# EAGLE library part CP2102 (library tmxk)
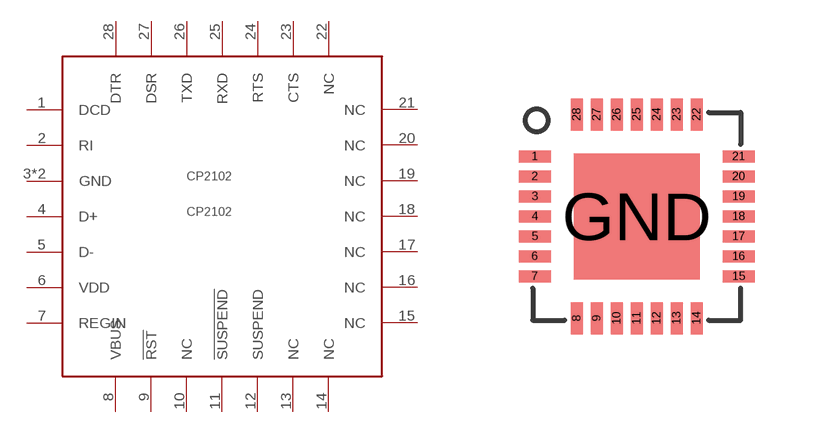
[diagram p23: symbol with the pads of QFN28-5*5; footprint QFN28-5*5]

Designator prefix U

## CP2102  [QFN28-5*5]
1  DCD
2  RI
3  GND
4  D+
5  D-
6  VDD
7  REGIN
8  VBUS
9  !RST!
10  NC
11  !SUSPEND!
12  SUSPEND
13  NC
14  NC
15  NC
16  NC
17  NC
18  NC
19  NC
20  NC
21  NC
22  NC
23  CTS
24  RTS
25  RXD
26  TXD
27  DSR
28  DTR
GND  GND

## Footprint QFN28-5*5 (pad centres in mm)
smd 0.8 x 0.3: 1 -2.59,1.46; 2 -2.59,0.96; 3 -2.59,0.46; 4 -2.59,-0.04; 5 -2.59,-0.54; 6 -2.59,-1.04; 7 -2.59,-1.54; 15 2.51,-1.54; 16 2.51,-1.04; 17 2.51,-0.54; 18 2.51,-0.04; 19 2.51,0.46; 20 2.51,0.96; 21 2.51,1.46
smd 0.3 x 0.8: 8 -1.54,-2.59; 9 -1.04,-2.59; 10 -0.54,-2.59; 11 -0.04,-2.59; 12 0.46,-2.59; 13 0.96,-2.59; 14 1.46,-2.59; 22 1.46,2.51; 23 0.96,2.51; 24 0.46,2.51; 25 -0.04,2.51; 26 -0.54,2.51; 27 -1.04,2.51; 28 -1.54,2.51
smd 3.15 x 3.15: GND -0.04,-0.04